# Altium integrated library PMIC.IntLib: 25 symbols
Pins are listed as number, name and electrical type; pins without a type are passive.

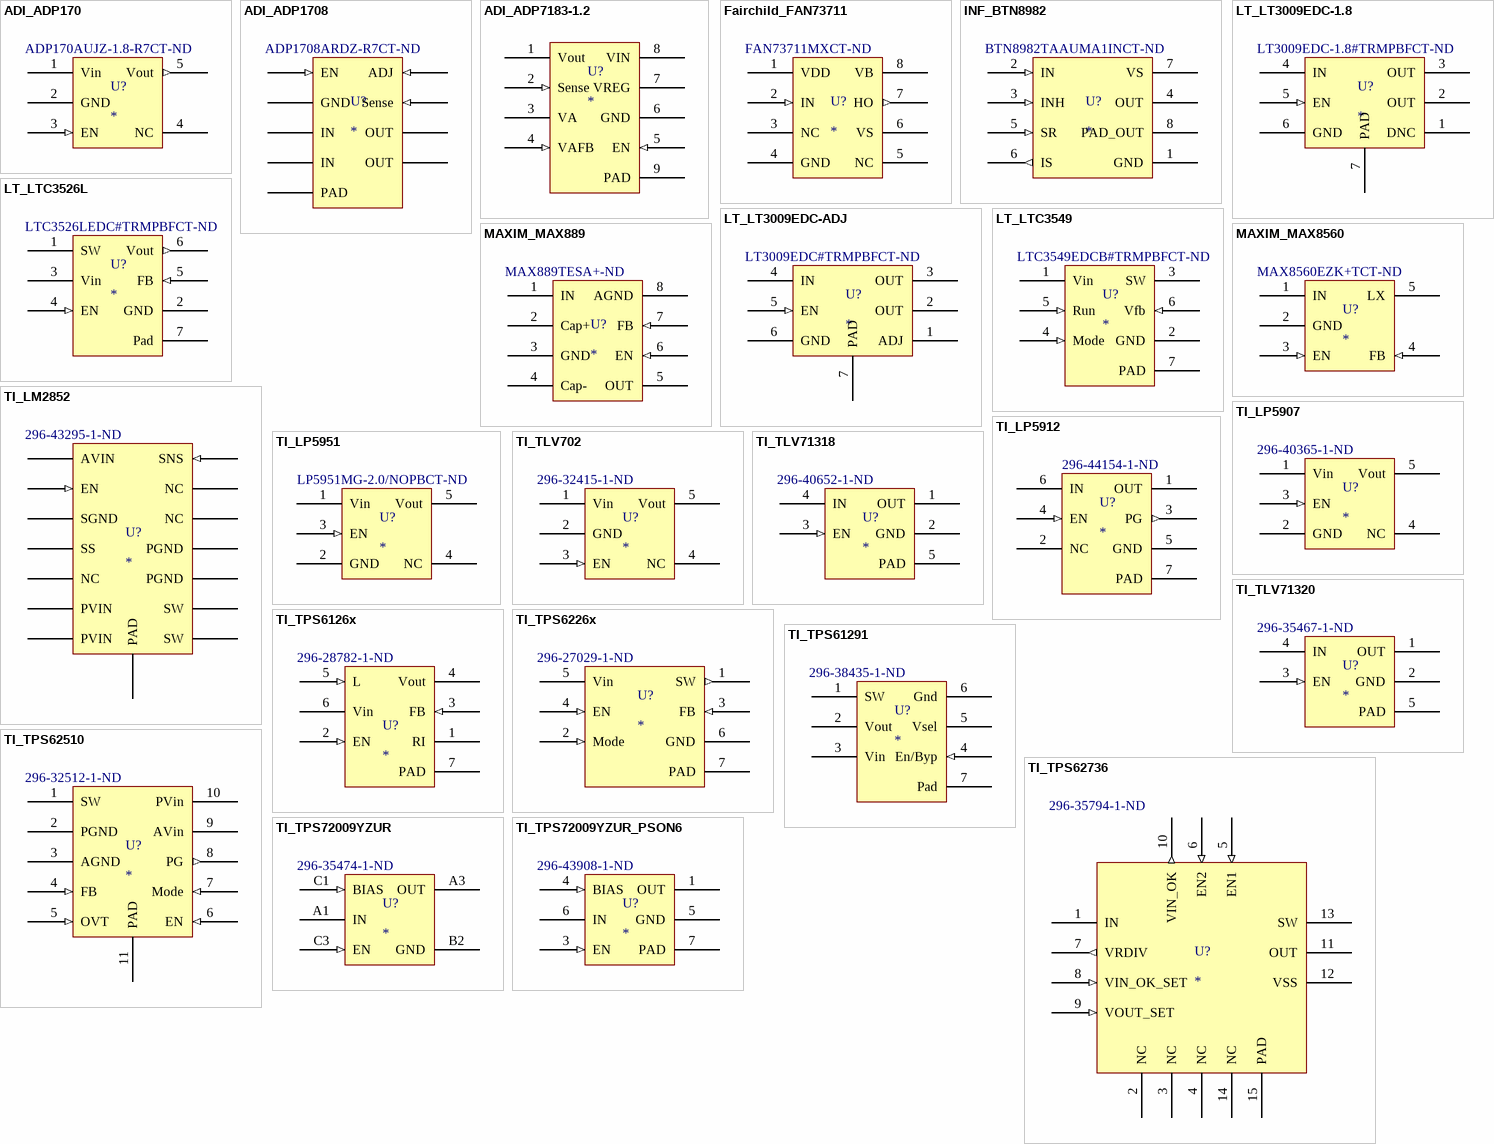
[diagram p0: symbols ADI_ADP170 to TI_TPS72009YZUR_PSON6]

## ADI_ADP170
designator U?  Supplier Part Number 1: ADP170AUJZ-1.8-R7CT-ND
1.8V 300mA LDO; Supplier 1: Digi-Key
footprint ADI_ADP170_SOT23-5 (SOT23, 5-Leads, Body 2.90x2.70mm, Pitch 0.95mm, IPC High Density)
pins: 1 Vin (power), 2 GND (power), 3 EN (in), 4 NC, 5 Vout (out)

## ADI_ADP1708
designator U?  Supplier Part Number 1: ADP1708ARDZ-R7CT-ND
ADJ 1A LDO; Supplier 1: Digikey
footprint ADI_ADP1706_SOIC8 (SOIC, 8-Leads, Body 4.90x3.85mm, Pitch 1.27mm, Thermal Pad 3.10x2.41mm, IPC High Density)
pins: 0 PAD (power), 1 EN (in), 2 GND (power), 3 IN (power), 4 IN (power), 5 OUT (power), 6 OUT (power), 7 Sense (in), 8 ADJ (in)

## ADI_ADP7183-1.2
designator U?
-1.2V Inverting 300mA LDO
footprint ADI_ADP7183_LFCSP-8 (SON, 8-Leads, Body 2.00x2.00mm, Pitch 0.50mm, Thermal Pad 1.50x0.89mm, IPC High Density)
pins: 1 Vout (power), 2 Sense (in), 3 VA, 4 VAFB (in), 5 EN (in), 6 GND (power), 7 VREG, 8 VIN (power), 9 PAD (power)

## Fairchild_FAN73711
designator U?  Supplier Part Number 1: FAN73711MXCT-ND
High Side Gate Driver, 600V; Supplier 1: Digi-Key
footprint Fairchild_FAN73711_SOP8 (SOP, 8-Leads, Body 4.92x3.95mm, Pitch 1.27mm, IPC High Density)
pins: 1 VDD (power), 2 IN (in), 3 NC, 4 GND (power), 5 NC, 6 VS (power), 7 HO (out), 8 VB (power)

## INF_BTN8982
designator U?  Supplier Part Number 1: BTN8982TAAUMA1INCT-ND
50A Half Bridge; Supplier 1: Digi-Key
footprint INF_8982_TO263-7 (D2-PAK, 8-Pads, Body 7.82x8.46mm (max), IPC Low Density)
pins: 1 GND (power), 2 IN (in), 3 INH (in), 4 OUT (power), 5 SR (in), 6 IS (out), 7 VS (power), 8 PAD_OUT (power)

## LT_LT3009EDC-1.8
designator U?  Supplier Part Number 1: LT3009EDC-1.8#TRMPBFCT-ND
1.8V 20mA LDO; Supplier 1: Digi-Key
footprint LT_LT3009_DFN6 (QFN, 6-Leads, Body 2.00x2.00mm, Pitch 0.50mm, Thermal Pad 0.61x1.42mm, IPC Medium Density)
pins: 1 DNC, 2 OUT (power), 3 OUT (power), 4 IN (power), 5 EN (in), 6 GND (power), 7 PAD (power)

## LT_LT3009EDC-ADJ
designator U?  Supplier Part Number 1: LT3009EDC#TRMPBFCT-ND
ADJ 20mA LDO; Supplier 1: Digi-Key
footprint LT_LT3009_DFN6 (QFN, 6-Leads, Body 2.00x2.00mm, Pitch 0.50mm, Thermal Pad 0.61x1.42mm, IPC Medium Density)
pins: 1 ADJ, 2 OUT (power), 3 OUT (power), 4 IN (power), 5 EN (in), 6 GND (power), 7 PAD (power)

## LT_LTC3526L
designator U?  Supplier Part Number 1: LTC3526LEDC#TRMPBFCT-ND
1MHz Boost 550mA; Supplier 1: Digi-Key
footprint LT_LTC3526L_DFN6 (SON, 6-Leads, Body 2.00x2.00mm, Pitch 0.50mm, Thermal Pad 1.60x0.89mm, IPC High Density)
pins: 1 SW (power), 2 GND (power), 3 Vin (power), 4 EN (in), 5 FB (in), 6 Vout (out), 7 Pad (power)

## LT_LTC3549
designator U?  Supplier Part Number 1: LTC3549EDCB#TRMPBFCT-ND
2.25MHz Buck; Supplier 1: Digi-Key
footprint LT_LTC3549_DFN (QFN, 6-Leads, Body 3.00x2.00mm, Pitch 0.50mm, Thermal Pad 1.65x1.35mm, IPC High Density)
pins: 1 Vin (power), 2 GND (power), 3 SW (power), 4 Mode (in), 5 Run (in), 6 Vfb (in), 7 PAD (power)

## MAXIM_MAX889
designator U?  Supplier Part Number 1: MAX889TESA+-ND
Inverting Charge pump 200mA; Supplier 1: Digikey
footprint MAXIM_MAX889_SOIC-8 (SOP, 8-Leads, Body 4.90x3.90mm, Pitch 1.27mm, IPC High Density)
pins: 1 IN (power), 2 Cap+ (power), 3 GND (power), 4 Cap- (power), 5 OUT (power), 6 EN (in), 7 FB (in), 8 AGND (power)

## MAXIM_MAX8560
designator U?  Supplier Part Number 1: MAX8560EZK+TCT-ND
4MHz Buck; Supplier 1: Digi-Key
footprint MAXIM_MAX8560_SOT23-5 (SOT23, 5-Leads, Body 2.90x2.70mm, Pitch 0.95mm, IPC High Density)
pins: 1 IN (power), 2 GND (power), 3 EN (in), 4 FB (in), 5 LX (power)

## TI_LM2852
designator U?  Supplier Part Number 1: 296-43295-1-ND
1.5MHz, 2A Buck; Supplier 1: Digi-Key
footprint TI_LM2852_TSOP-14 (TSOP, 14-Leads, Body 5.00x4.40mm, Pitch 0.65mm, Thermal Pad 3.10x3.00mm, IPC High Density)
pins: 1 AVIN (power), 2 EN (in), 3 SGND (power), 4 SS, 5 NC, 6 PVIN (power), 7 PVIN (power), 8 SW (power), 9 SW (power), 10 PGND (power), 11 PGND (power), 12 NC, 13 NC, 14 SNS (in), 15 PAD (power)

## TI_LP5907
designator U?  Supplier Part Number 1: 296-40365-1-ND
3.3V 250mA LDO; Supplier 1: Digikey
footprint TI_TLV702_SOT23-5 (SOT23, 5-Leads, Body 2.90x2.70mm, Pitch 0.95mm, IPC High Density)
pins: 1 Vin (power), 2 GND (power), 3 EN (in), 4 NC, 5 Vout (power)

## TI_LP5912
designator U?  Supplier Part Number 1: 296-44154-1-ND
0.9V 500mA LDO; Supplier 1: Digi-Key
footprint TI_LP5912_PSON6 (SON, 6-Leads, Body 2.00x2.00mm, Pitch 0.65mm, Thermal Pad 1.60x0.89mm, IPC High Density)
pins: 1 OUT (power), 2 NC, 3 PG (out), 4 EN (in), 5 GND (power), 6 IN (power), 7 PAD (power)

## TI_LP5951
designator U?  Supplier Part Number 1: LP5951MG-2.0/NOPBCT-ND
2.0V 150mA LDO; Supplier 1: Digi-Key
footprint TI_LP5951_SC70-5 (SOT23, 5-Leads, Body 2.00x2.10mm, Pitch 0.65mm, IPC High Density)
pins: 1 Vin (power), 2 GND (power), 3 EN (in), 4 NC, 5 Vout (power)

## TI_TLV702
designator U?  Supplier Part Number 1: 296-32415-1-ND
3.3V 300mA LDO; Supplier 1: Digikey
footprint TI_TLV702_SOT23-5 (SOT23, 5-Leads, Body 2.90x2.70mm, Pitch 0.95mm, IPC High Density)
pins: 1 Vin (power), 2 GND (power), 3 EN (in), 4 NC, 5 Vout (power)

## TI_TLV71318
designator U?  Supplier Part Number 1: 296-40652-1-ND
1.8V 150mA LDO CAPLESS; Supplier 1: Digi-Key
footprint TI_TLV713_DQN4 (SON, 4-Leads, Body 1.00x1.00mm, Pitch 0.65mm, Thermal Pad 0.50x0.00mm, IPC High Density)
pins: 1 OUT (power), 2 GND (power), 3 EN (in), 4 IN (power), 5 PAD (power)

## TI_TLV71320
designator U?  Supplier Part Number 1: 296-35467-1-ND
2.0V 150mA LDO CAPLESS; Supplier 1: Digi-Key
footprint TI_TLV713_DQN4 (SON, 4-Leads, Body 1.00x1.00mm, Pitch 0.65mm, Thermal Pad 0.50x0.00mm, IPC High Density)
pins: 1 OUT (power), 2 GND (power), 3 EN (in), 4 IN (power), 5 PAD (power)

## TI_TPS6126x
designator U?  Supplier Part Number 1: 296-28782-1-ND
2.5MHz Boost 100mA; Supplier 1: Digi-Key
footprint TI_TPS6126x_PSON6 (SON, 6-Leads, Body 2.00x2.00mm, Pitch 0.65mm, Thermal Pad 1.60x0.89mm, IPC High Density)
pins: 1 RI "2-20kR", 2 EN (in) "2-20kR", 3 FB (in) "2-20kR", 4 Vout (power) "2-20kR", 5 L (in) "2-20kR", 6 Vin (power) "2-20kR", 7 PAD (power) "2-20kR"

## TI_TPS6226x
designator U?  Supplier Part Number 1: 296-27029-1-ND
2.25MHz Buck; Supplier 1: Digi-Key
footprint TI_TPS6226x_PSON6 (SON, 6-Leads, Body 2.00x2.00mm, Pitch 0.65mm, Thermal Pad 1.60x0.89mm, IPC Medium Density)
pins: 1 SW (out), 2 Mode (in), 3 FB (in), 4 EN (in), 5 Vin (power), 6 GND (power), 7 PAD (power)

## TI_TPS61291
designator U?  Supplier Part Number 1: 296-38435-1-ND
Boost w/ Bypass; Supplier 1: Digi-Key
footprint TI_TPS61291_PSON6 (SON, 6-Leads, Body 2.00x2.00mm, Pitch 0.65mm, Thermal Pad 1.60x0.89mm, IPC High Density)
pins: 1 SW (power), 2 Vout (power), 3 Vin (power), 4 En/Byp (in), 5 Vsel, 6 Gnd (power), 7 Pad (power)

## TI_TPS62510
designator U?  Supplier Part Number 1: 296-32512-1-ND
1.5MHz Buck; Supplier 1: Digi-Key
footprint TI_TPS62510_SON-10 (SON, 10-Leads, Body 3.00x3.00mm, Pitch 0.50mm, Thermal Pad 2.40x1.49mm, IPC High Density)
pins: 1 SW (power), 2 PGND (power), 3 AGND (power), 4 FB (in), 5 OVT (in), 6 EN (in), 7 Mode (in), 8 PG (out), 9 AVin (power), 10 PVin (power), 11 PAD (power)

## TI_TPS62736
designator U?  Supplier Part Number 1: 296-35794-1-ND
ULP Buck 50mA; Supplier 1: Digi-Key
footprint TI_TPS62736_PQFN14 (QFN, 14-Leads, Body 3.50x3.50mm, Pitch 1.50mm/0.50mm, Thermal Pad 2.05x2.05mm, IPC Medium Density)
pins: 1 IN (power), 2 NC, 3 NC, 4 NC, 5 EN1 (in), 6 EN2 (in), 7 VRDIV (out), 8 VIN_OK_SET (in), 9 VOUT_SET (in), 10 VIN_OK (out), 11 OUT (power), 12 VSS (power), 13 SW (power), 14 NC (power), 15 PAD (power)

## TI_TPS72009YZUR
designator U?  Supplier Part Number 1: 296-35474-1-ND
0.9V 350mA LDO; Supplier 1: Digi-Key
footprint TI_TPS720_DSBGA5 (BGA, 5-Leads, Body 0.96x1.33mmx0.63mm, Pitch 0.50mm)
pins: A1 IN (power), A3 OUT (power), B2 GND (power), C1 BIAS (in), C3 EN (in)

## TI_TPS72009YZUR_PSON6
designator U?  Supplier Part Number 1: 296-43908-1-ND
0.9V 350mA LDO; Supplier 1: Digi-Key
footprint TI_TPS720_PSON6 (SON, 6-Leads, Body 2.00x2.00mm, Pitch 0.65mm, Thermal Pad 1.60x0.89mm, IPC High Density)
pins: 1 OUT (power), 3 EN (in), 4 BIAS (in), 5 GND (power), 6 IN (power), 7 PAD (power)